# Altium schematic symbol library WE-CAIR.SchLib: 60 symbols (part 2 of 2)
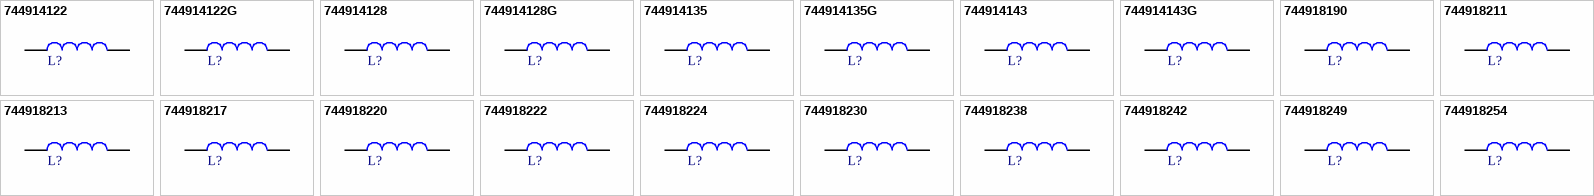
[diagram p2: symbols 744914122 to 744918254]

## 744918249
designator L?, comment 491nH  (value not drawn)
WE-CAIR SMT Air Coil, size 5910, 491nH, 2A, 65mΩ; Manufacturer Part Number: 744918249; Manufacturer: Wurth Elektronik; Case/Size Code: 5910; Inductance Tolerance: 5%; Q Factor: 100; Self Resonant Frequency: 0.535GHz; Category: RF Inductors; Match Code: WE-CAIR; ComponentLink1Description: Website Link; ComponentLink1URL: https://www.we-online.com/redexpert/article/744918249?ad; ComponentLink2Description: Datasheet Link; ComponentLink2URL: https://www.we-online.com/redexpert/spec/744918249?ad; Mount: Surface Mount; Operating Temperature Max: 125°C; Operating Temperature Min: -40°C; Packaging: Tape and Reel; Length: 10.55mm; Width: 6.35mm; Height: 5.9mm; DC Resistance Max: 65mΩ; Inductance: 491nH; Rated Current: 2A
footprint WE-CAIR_5910
simulation model 5910_744918249_491n
pins: 1, 2

## 744918254
designator L?, comment 538nH  (value not drawn)
WE-CAIR SMT Air Coil, size 5910, 538nH, 2A, 90mΩ; Manufacturer Part Number: 744918254; Manufacturer: Wurth Elektronik; Case/Size Code: 5910; Inductance Tolerance: 5%; Q Factor: 100; Self Resonant Frequency: 0.49GHz; Category: RF Inductors; Match Code: WE-CAIR; ComponentLink1Description: Website Link; ComponentLink1URL: https://www.we-online.com/redexpert/article/744918254?ad; ComponentLink2Description: Datasheet Link; ComponentLink2URL: https://www.we-online.com/redexpert/spec/744918254?ad; Mount: Surface Mount; Operating Temperature Max: 125°C; Operating Temperature Min: -40°C; Packaging: Tape and Reel; Length: 10.55mm; Width: 6.35mm; Height: 5.9mm; DC Resistance Max: 90mΩ; Inductance: 538nH; Rated Current: 2A
footprint WE-CAIR_5910
simulation model 5910_744918254_538n
pins: 1, 2